# Altium schematic symbol library SMA_CONNECTOR.SchLib: 1 symbol
Pins are listed as number, name and electrical type; pins without a type are passive.

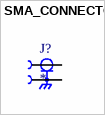
[diagram p0: symbol SMA_CONNECTOR]

## SMA_CONNECTOR
designator J?
Straight SMA Connector; MP: altium_native_batch; Value: *; Package: None; Availability: Unavailable; Price: None
footprint LPRS_SMA_CONNECTOR
pins: 1, G1 2, G2 2, G3 2, G4 2